# Altium schematic symbol library AP22653W6-7.SchLib: 1 symbol
Pins are listed as number, name and electrical type; pins without a type are passive.

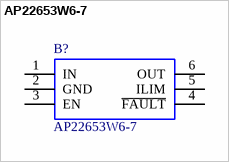
[diagram p0: symbol AP22653W6-7]

## AP22653W6-7
designator B?
Power Switch ICs - Power Distribution 1-Ch Precision Curr-Limit Load SW; Manufacturer_Name: Diodes Incorporated; Geometry.Height: 1.45mm; Manufacturer_Part_Number: AP22653W6-7; Mouser Part Number: 621-AP22653W6-7; Mouser Price/Stock: https://www.mouser.co.uk/ProductDetail/Diodes-Incorporated/AP22653W6-7?qs=rkhjVJ6%2F3ELFrpB7eThLLg%3D%3D; Arrow Part Number: AP22653W6-7; Arrow Price/Stock: null?region=asia; Datasheet Link: https://www.diodes.com//assets/Datasheets/AP22652_53_52A_53A.pdf
footprint SOT95P280X145-6N
pins: 1 IN, 2 GND, 3 EN, 4 ~{FAULT}, 5 ILIM, 6 OUT